# EAGLE library part PC1622N (library #Potenciometry)
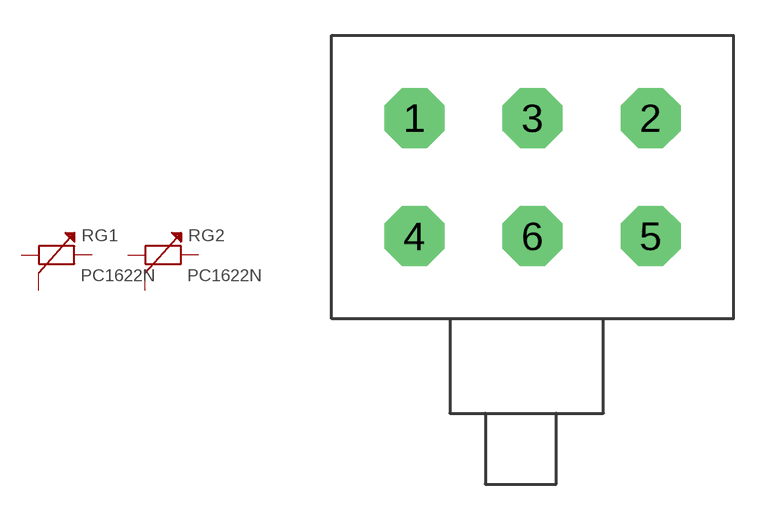
[diagram p2: symbol with the pads of PC1622N; footprint PC1622N]

Designator prefix R; gates G1=TRIMR G2=TRIMR

## PC1622N  [PC1622N]
1  G1:1  pas
2  G1:3  pas
3  G1:2  pas
4  G2:1  pas
5  G2:3  pas
6  G2:2  pas

## Footprint PC1622N (pad centres in mm)
drill 1.2 pad 2.54 octagon: 1 0,0; 2 10,0; 3 5,0; 4 0,-5; 5 10,-5; 6 5,-5